# EAGLE library part AS-ITM-00197 (library tinycircuits)
IC SRAM 1MBIT 20MHZ 8TSSOP
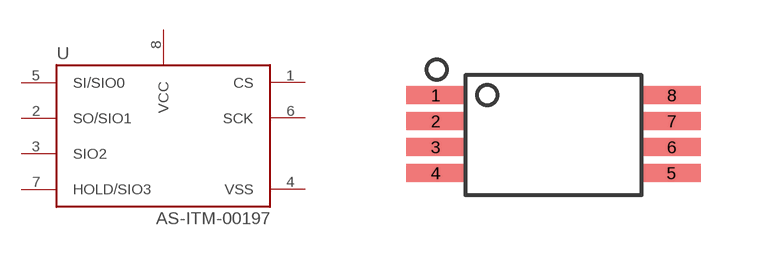
[diagram p85: symbol with the pads of TSSOP(8); footprint TSSOP(8)]

Designator prefix U

## AS-ITM-00197 (PARTNO: AS-ITM-00197; VALUE: 23LC1024-I/ST)  [TSSOP(8)]
1  CS
2  SO/SIO1
3  SIO2
4  VSS
5  SI/SIO0
6  SCK
7  HOLD/SIO3
8  VCC

## Footprint TSSOP(8) (pad centres in mm)
smd 1.45 x 0.45: 1 -3,1; 2 -3,0.35; 3 -3,-0.3; 4 -3,-0.95; 5 2.9,-0.95; 6 2.9,-0.3; 7 2.9,0.35; 8 2.9,1